# Altium schematic symbol library SiLabs.SchLib: 3 symbols
Pins are listed as number, name and electrical type; pins without a type are passive.

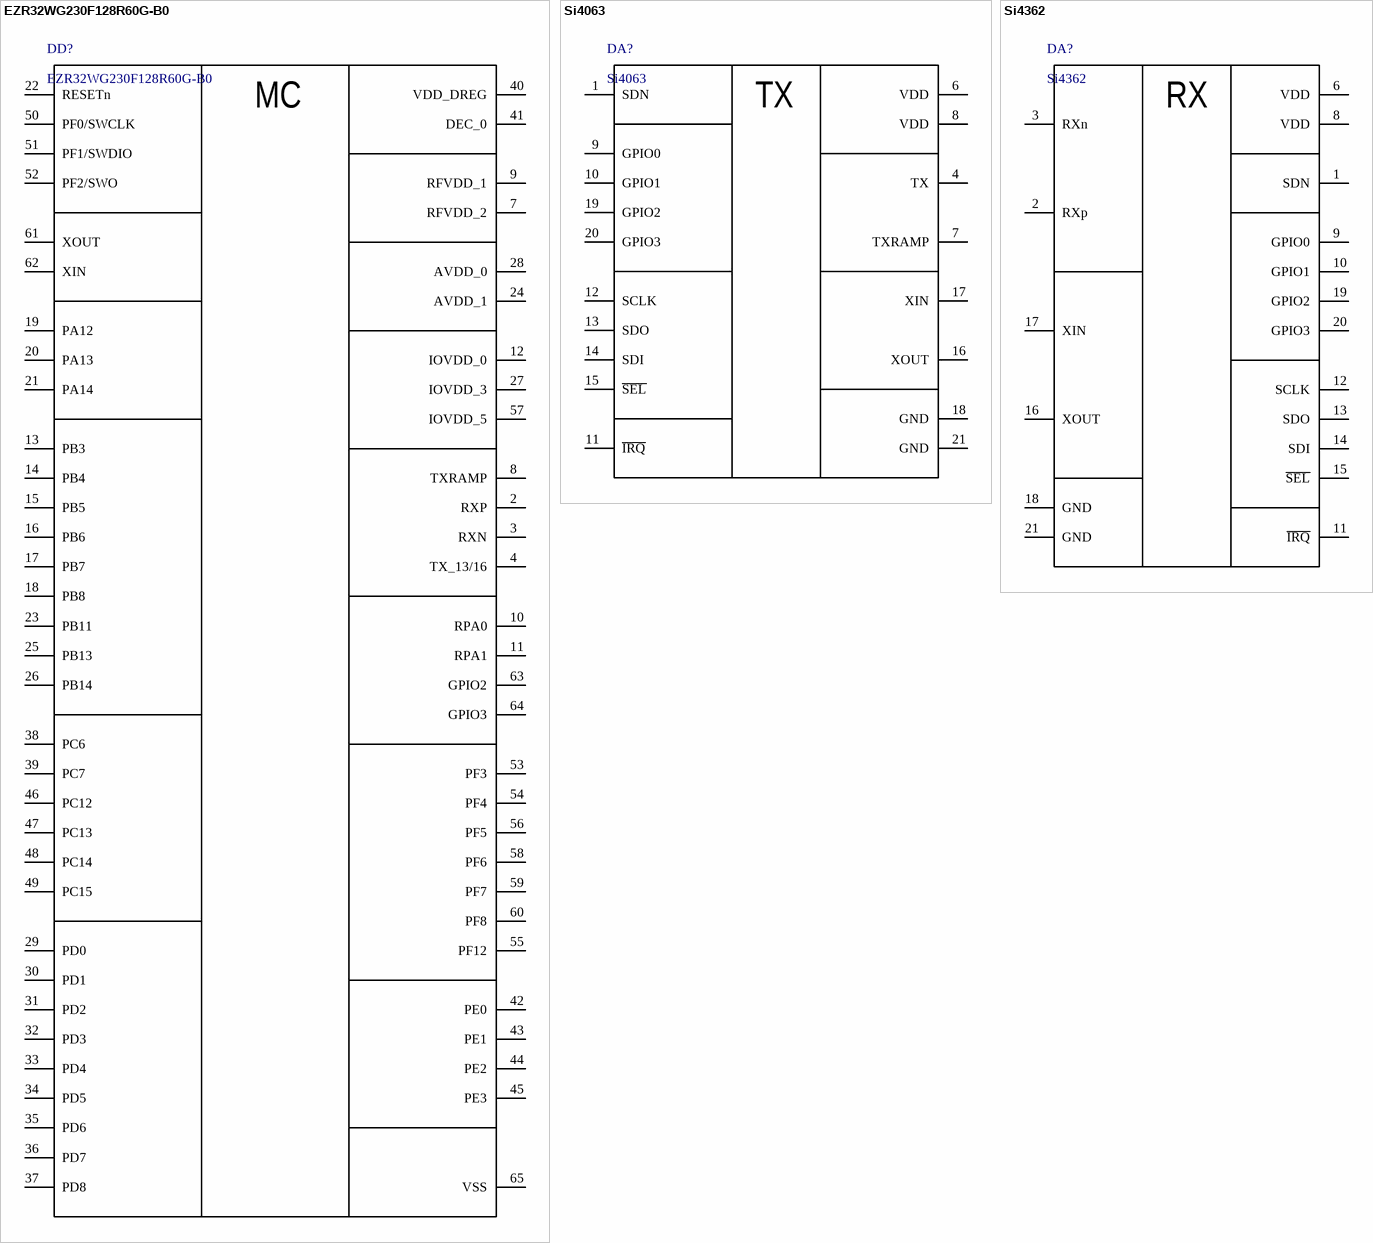
[diagram p0: symbols EZR32WG230F128R60G-B0 to Si4362]

## EZR32WG230F128R60G-B0
designator DD?
EZR32WG Wireless MCU; Supplier 1: Digi-Key; Supplier Part Number 1: 336-3227-ND; PartNo: *
footprint QFN50P900X900X85_HS-65L (QFN, 64-Leads, Body 9.00x9.00mm, Pitch 0.50mm, Thermal Pad 6.90x6.90mm, IPC High Density)
pins: 2 RXP, 3 RXN, 4 TX_13/16, 7 RFVDD_2, 8 TXRAMP, 9 RFVDD_1, 10 RPA0, 11 RPA1, 12 IOVDD_0, 13 PB3, 14 PB4, 15 PB5, 16 PB6, 17 PB7, 18 PB8, 19 PA12, 20 PA13, 21 PA14, 22 RESETn, 23 PB11, 24 AVDD_1, 25 PB13, 26 PB14, 27 IOVDD_3, 28 AVDD_0, 29 PD0, 30 PD1, 31 PD2, 32 PD3, 33 PD4, 34 PD5, 35 PD6, 36 PD7, 37 PD8, 38 PC6, 39 PC7, 40 VDD_DREG, 41 DEC_0, 42 PE0, 43 PE1, 44 PE2, 45 PE3, 46 PC12, 47 PC13, 48 PC14, 49 PC15, 50 PF0/SWCLK, 51 PF1/SWDIO, 52 PF2/SWO, 53 PF3, 54 PF4, 55 PF12, 56 PF5, 57 IOVDD_5, 58 PF6, 59 PF7, 60 PF8, 61 XOUT, 62 XIN, 63 GPIO2, 64 GPIO3, 65 VSS
text: MC

## Si4063
designator DA?
EZRadioPro Transmitter; Supplier 1: Digi-Key; PartNo: *
footprint QFN50P400X400X85_HS-21L (QFN, 20-Leads, Body 4.00x4.00mm, Pitch 0.50mm, Thermal Pad 2.60x2.60mm, IPC High Density)
pins: 1 SDN, 4 TX, 6 VDD, 7 TXRAMP, 8 VDD, 9 GPIO0, 10 GPIO1, 11 ~{IRQ}, 12 SCLK, 13 SDO, 14 SDI, 15 ~{SEL}, 16 XOUT, 17 XIN, 18 GND, 19 GPIO2, 20 GPIO3, 21 GND

## Si4362
designator DA?
EZRadioPro Receiver; Supplier 1: Digi-Key; PartNo: *
footprint QFN50P400X400X85_HS-21L (QFN, 20-Leads, Body 4.00x4.00mm, Pitch 0.50mm, Thermal Pad 2.60x2.60mm, IPC High Density)
pins: 1 SDN, 2 RXp, 3 RXn, 6 VDD, 8 VDD, 9 GPIO0, 10 GPIO1, 11 ~{IRQ}, 12 SCLK, 13 SDO, 14 SDI, 15 ~{SEL}, 16 XOUT, 17 XIN, 18 GND, 19 GPIO2, 20 GPIO3, 21 GND
text: RX